# Altium schematic symbol library PDT_Relay.SchLib: 9 symbols
Pins are listed as number, name and electrical type; pins without a type are passive.

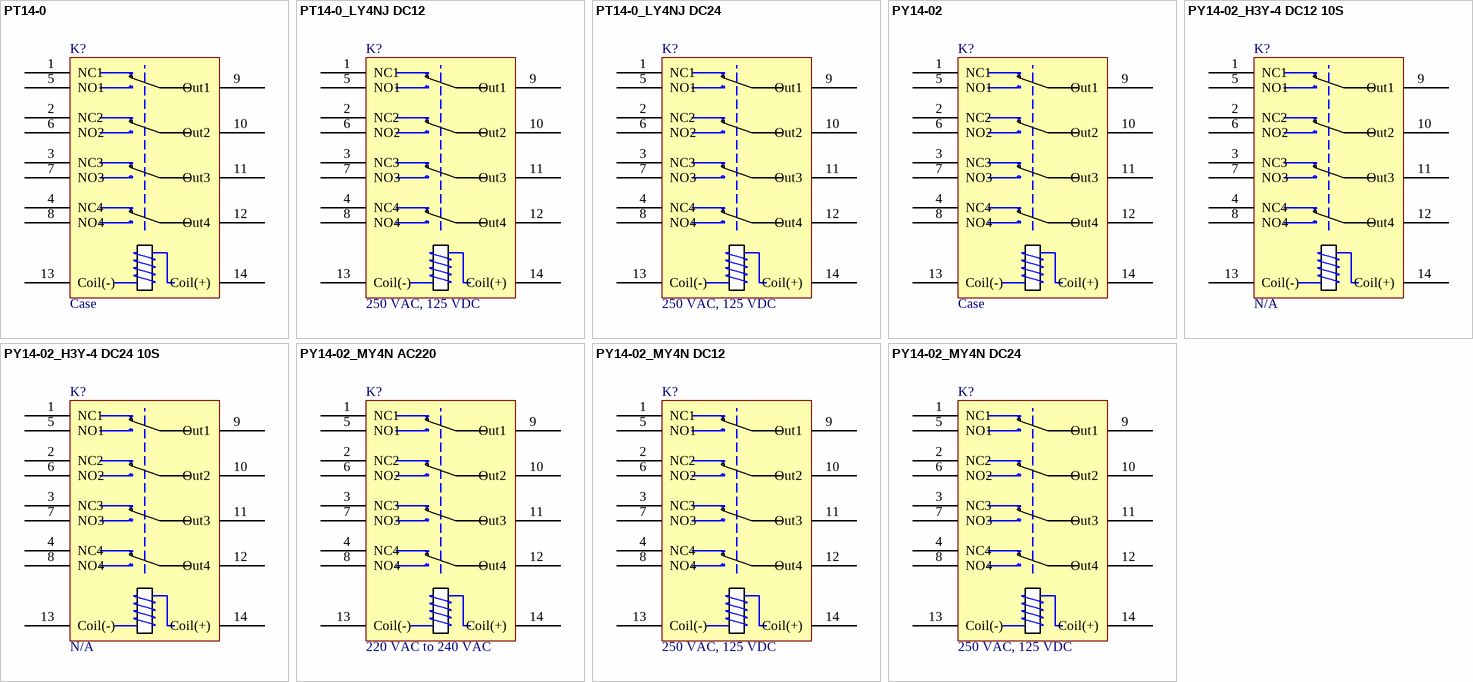
[diagram p0: symbols PT14-0 to PY14-02_MY4N DC24]

## PT14-0
designator K?, comment Case
Suitable for LY4N; Manufacturer: OEM; Model: PT14-0; Associated Relay Series: LY4N; Coil Current: N/A; Coil Resistance: N/A; Coil Voltage: N/A; ComponentLink1Description: Datasheet; ComponentLink1URL: https://assets.omron.com/m/3e54678f7feeb2fc/original/LY-Electromechanical-Relay-Datasheet.pdf; Contact Current Rating: N/A; Power Consumption: N/A; Supplier 1 URL: https://www.mouser.com/ProductDetail/Omron-Automation-and-Safety/PT14-0?qs=lK7M36XCk6KbgQGH0MzVRQ%3D%3D; Supplier 2 URL: https://www.digikey.com/en/products/detail/omron-automation-and-safety/PT14-0/369804; Supplier 3 URL: https://www.thegioiic.com/13f-4z-a2-de-relay-ly4n-j-14-chan-han-pcb; Switching Voltage: N/A; Value: Case; Manufacturer Part Number: N/A; Mount: THT; Operating Temperature Max: + 85 C; Operating Temperature Min: - 40 C; Package / Case: PDT; Supplier 1: Mouser; Supplier 1 Part Number: 653-PT14-0; Supplier 2: Digi-Key; Supplier 2 Part Number: Z5912-ND; Supplier 3: thegioiic; Supplier 3 Part Number: 13F-4Z-A2
footprint PT14-0
pins: 1 NC1, 2 NC2, 3 NC3, 4 NC4, 5 NO1, 6 NO2, 7 NO3, 8 NO4, 9 Out1, 10 Out2, 11 Out3, 12 Out4, 13 Coil(-) "-", 14 Coil(+) "+"

## PT14-0_LY4NJ DC12
designator K?, comment 250 VAC, 125 VDC
Coil Voltage: 12 VDC; Power Consumption: 900 mW; Manufacturer: OEM; Model: PT14-0 with LY4NJ DC12; Coil Current: 120 mA; Coil Resistance: 100 Ohms; Coil Voltage: 12 VDC; Power Consumption: 1.5 W; Switching Voltage: 250 VAC, 125 VDC; Associated Relay Series: N/A; ComponentLink1Description: Datasheet; ComponentLink1URL: https://assets.omron.com/m/3e54678f7feeb2fc/original/LY-Electromechanical-Relay-Datasheet.pdf; Contact Current Rating: N/A; Supplier 1 URL: https://www.mouser.com/ProductDetail/Omron-Automation-and-Safety/LY4N-D2-DC12?qs=PuRzBkp%252Brz6S%2FUV9Ejs9dw%3D%3D; Supplier 2 URL: https://www.digikey.com/en/products/detail/omron-automation-and-safety/LY4N-DC12/369576; Supplier 3 URL: N/A; Value: 250 VAC, 125 VDC; Manufacturer Part Number: N/A; Mount: THT; Operating Temperature Max: + 85 C; Operating Temperature Min: - 40 C; Package / Case: PDT; Supplier 1: Mouser; Supplier 1 Part Number: 653-LY4N-D2DC12; Supplier 2: Digi-Key; Supplier 2 Part Number: Z6262-ND; Supplier 3: thegioiic; Supplier 3 Part Number: N/A
footprint PT14-0_LY4NJ
footprint PT14-0_LY4NJ - *cluck* *cluck* *cluck* *cluck*
pins: 1 NC1, 2 NC2, 3 NC3, 4 NC4, 5 NO1, 6 NO2, 7 NO3, 8 NO4, 9 Out1, 10 Out2, 11 Out3, 12 Out4, 13 Coil(-) "-", 14 Coil(+) "+"

## PT14-0_LY4NJ DC24
designator K?, comment 250 VAC, 125 VDC
Coil Voltage: 24 VDC; Power Consumption: 900 mW; Manufacturer: OEM; Model: PT14-0 with LY4NJ DC24; Coil Current: 69 mA; Coil Resistance: 350 Ohms; Coil Voltage: 24 VDC; Power Consumption: 1.5 W; Switching Voltage: 250 VAC, 125 VDC; Associated Relay Series: N/A; ComponentLink1Description: Datasheet; ComponentLink1URL: https://assets.omron.com/m/3e54678f7feeb2fc/original/LY-Electromechanical-Relay-Datasheet.pdf; Contact Current Rating: N/A; Supplier 1 URL: https://www.mouser.com/ProductDetail/Omron-Automation-and-Safety/LY4N-DC24?qs=pWf36BUtxBjTuKIbmN9IQQ%3D%3D; Supplier 2 URL: https://www.digikey.com/en/products/detail/omron-automation-and-safety/LY4N-DC24/369577; Supplier 3 URL: https://www.thegioiic.com/ly4nj-dc24-ro-le-24vdc-10a-4pdt-14-chan; Value: 250 VAC, 125 VDC; Manufacturer Part Number: N/A; Mount: THT; Operating Temperature Max: + 85 C; Operating Temperature Min: - 40 C; Package / Case: PDT; Supplier 1: Mouser; Supplier 1 Part Number: 653-LY4N-DC24; Supplier 2: Digi-Key; Supplier 2 Part Number: Z2275-ND; Supplier 3: thegioiic; Supplier 3 Part Number: LY4NJ-DC24
footprint PT14-0_LY4NJ
footprint PT14-0_LY4NJ - Pepe sounds like pif
pins: 1 NC1, 2 NC2, 3 NC3, 4 NC4, 5 NO1, 6 NO2, 7 NO3, 8 NO4, 9 Out1, 10 Out2, 11 Out3, 12 Out4, 13 Coil(-) "-", 14 Coil(+) "+"

## PY14-02
designator K?, comment Case
Suitable for HH54P, MY4N, H3Y-4; Manufacturer: OEM; Model: PY14-02; Associated Relay Series: HH54P, MY4N, H3Y-4; Coil Current: N/A; Coil Resistance: N/A; Coil Voltage: N/A; ComponentLink1Description: Datasheet; ComponentLink1URL: https://assets.omron.eu/downloads/datasheet/en/v10/my-gs_datasheet_en.pdf; Contact Current Rating: N/A; Power Consumption: N/A; Supplier 1 URL: https://www.mouser.com/ProductDetail/Omron-Automation-and-Safety/PY14-02?qs=sQVrL4YZhsT%252BfQC7zib9Cw%3D%3D; Supplier 2 URL: https://www.digikey.com/en/products/detail/omron-automation-and-safety/PY14-02/127289; Supplier 3 URL: https://www.thegioiic.com/py14-02-de-relay-hh54p-my4n-h3y-4-14-chan; Switching Voltage: N/A; Value: Case; Manufacturer Part Number: N/A; Mount: THT; Operating Temperature Max: + 85 C; Operating Temperature Min: - 40 C; Package / Case: PDT; Supplier 1: Mouser; Supplier 1 Part Number: 653-PY14-02; Supplier 2: Digi-Key; Supplier 2 Part Number: Z813-ND; Supplier 3: thegioiic; Supplier 3 Part Number: PY14-02
footprint PY14-02
pins: 1 NC1, 2 NC2, 3 NC3, 4 NC4, 5 NO1, 6 NO2, 7 NO3, 8 NO4, 9 Out1, 10 Out2, 11 Out3, 12 Out4, 13 Coil(-) "-", 14 Coil(+) "+"

## PY14-02_H3Y-4 DC12 10S
designator K?, comment N/A
Coil Voltage: 12 VDC; Time: 10s; Manufacturer: OEM; Model: PY14-02 with H3Y-4 DC12 10s; Coil Voltage: 12 VDC; Coil Current: N/A; Coil Resistance: N/A; Power Consumption: N/A; Switching Voltage: N/A; Associated Relay Series: N/A; ComponentLink1Description: Datasheet; ComponentLink1URL: https://assets.omron.eu/downloads/datasheet/en/v3/m092_h3y-series_solid-state_timers_datasheet_en.pdf; Contact Current Rating: N/A; Supplier 1 URL: N/A; Supplier 2 URL: N/A; Supplier 3 URL: https://www.thegioiic.com/h3y-4-ro-le-hen-gio-on-delay-10-giay-12vdc-4pdt; Value: N/A; Manufacturer Part Number: N/A; Mount: THT; Operating Temperature Max: + 85 C; Operating Temperature Min: - 40 C; Package / Case: PDT; Supplier 1: Mouser; Supplier 1 Part Number: N/A; Supplier 2: Digi-Key; Supplier 2 Part Number: N/A; Supplier 3: thegioiic; Supplier 3 Part Number: H3Y-4
footprint PY14-02_H3Y-4
pins: 1 NC1, 2 NC2, 3 NC3, 4 NC4, 5 NO1, 6 NO2, 7 NO3, 8 NO4, 9 Out1, 10 Out2, 11 Out3, 12 Out4, 13 Coil(-) "-", 14 Coil(+) "+"

## PY14-02_H3Y-4 DC24 10S
designator K?, comment N/A
Coil Voltage: 24 VDC; Time: 10s; Manufacturer: OEM; Model: PY14-02 with H3Y-4 DC24 10s; Coil Voltage: 24 VDC; Coil Current: N/A; Coil Resistance: N/A; Power Consumption: N/A; Switching Voltage: N/A; Associated Relay Series: N/A; ComponentLink1Description: Datasheet; ComponentLink1URL: https://assets.omron.eu/downloads/datasheet/en/v3/m092_h3y-series_solid-state_timers_datasheet_en.pdf; Contact Current Rating: N/A; Supplier 1 URL: https://www.mouser.com/ProductDetail/Omron-Automation-and-Safety/H3Y-4DC2410S?qs=3HJ2avRr9PLs586KVxQtQw%3D%3D; Supplier 2 URL: https://www.digikey.com/en/products/detail/omron-automation-and-safety/H3Y-4-DC24-5S/2669459; Supplier 3 URL: https://www.thegioiic.com/h3y-4-ro-le-hen-gio-on-delay-10-giay-24vdc-4pdt; Value: N/A; Manufacturer Part Number: N/A; Mount: THT; Operating Temperature Max: + 85 C; Operating Temperature Min: - 40 C; Package / Case: PDT; Supplier 1: Mouser; Supplier 1 Part Number: 653-H3Y-4DC2410S; Supplier 2: Digi-Key; Supplier 2 Part Number: Z12650-ND; Supplier 3: thegioiic; Supplier 3 Part Number: H3Y-4
footprint PY14-02_H3Y-4
pins: 1 NC1, 2 NC2, 3 NC3, 4 NC4, 5 NO1, 6 NO2, 7 NO3, 8 NO4, 9 Out1, 10 Out2, 11 Out3, 12 Out4, 13 Coil(-) "-", 14 Coil(+) "+"

## PY14-02_MY4N AC220
designator K?, comment 220 VAC to 240 VAC
Coil Voltage: 220 VAC; Power Consumption: 900 mW; Manufacturer: Omron; Manufacturer Part Number: MY4N-GS-220VAC; Model: PY14-02 with MY4N AC220; Coil Current: 5.3 mA; Coil Resistance: 18.79 kOhms; Coil Voltage: 220 VAC; Power Consumption: 1.1 W; Switching Voltage: 220 VAC to 240 VAC; Associated Relay Series: N/A; ComponentLink1Description: Datasheet; ComponentLink1URL: https://assets.omron.eu/downloads/datasheet/en/v10/my-gs_datasheet_en.pdf; Contact Current Rating: N/A; Supplier 1 URL: https://www.mouser.com/ProductDetail/Omron-Automation-and-Safety/MY4N-CR-AC220-240-S?qs=NHN4o8quFyTSJSWn5FSQzA%3D%3D; Supplier 2 URL: https://www.digikey.com/en/products/detail/omron-automation-and-safety/MY4N-AC200-220-S/1814345; Supplier 3 URL: https://www.thegioiic.com/my4n-gs-220vac-ro-le-220vdc-3a-4pdt-14-chan; Value: 220 VAC to 240 VAC; Mount: THT; Operating Temperature Max: + 85 C; Operating Temperature Min: - 40 C; Package / Case: PDT; Supplier 1: Mouser; Supplier 1 Part Number: 653-MY4N-CRAC220240S; Supplier 2: Digi-Key; Supplier 2 Part Number: Z12605-ND; Supplier 3: thegioiic; Supplier 3 Part Number: MY4N-GS-220VAC
footprint PY14-02_MY4IN
pins: 1 NC1, 2 NC2, 3 NC3, 4 NC4, 5 NO1, 6 NO2, 7 NO3, 8 NO4, 9 Out1, 10 Out2, 11 Out3, 12 Out4, 13 Coil(-) "-", 14 Coil(+) "+"

## PY14-02_MY4N DC12
designator K?, comment 250 VAC, 125 VDC
Coil Voltage: 12 VDC; Power Consumption: 900 mW; Manufacturer: OEM; Manufacturer Part Number: MY4N-GS-DC12; Model: PY14-02 with MY4N DC12; Coil Current: 75 mA; Coil Resistance: 160 Ohms; Coil Voltage: 12 VDC; Power Consumption: 900 mW; Switching Voltage: 250 VAC, 125 VDC; Associated Relay Series: N/A; ComponentLink1Description: Datasheet; ComponentLink1URL: https://assets.omron.eu/downloads/datasheet/en/v10/my-gs_datasheet_en.pdf; Contact Current Rating: N/A; Supplier 1 URL: https://www.mouser.com/ProductDetail/Omron-Automation-and-Safety/MY4N-DC12S?qs=UirnxRGj1IfdDzWMebvtsg%3D%3D; Supplier 2 URL: https://www.digikey.com/en/products/detail/omron-automation-and-safety/MY4N-DC12-S/369742; Supplier 3 URL: https://www.thegioiic.com/my4n-gs-dc12-ro-le-12vdc-3a-4pdt-14-chan; Value: 250 VAC, 125 VDC; Mount: THT; Operating Temperature Max: + 85 C; Operating Temperature Min: - 40 C; Package / Case: PDT; Supplier 1: Mouser; Supplier 1 Part Number: 653-MY4N-DC12(S); Supplier 2: Digi-Key; Supplier 2 Part Number: Z2279-ND; Supplier 3: thegioiic; Supplier 3 Part Number: MY4N-GS-DC12
footprint PY14-02_MY4IN
pins: 1 NC1, 2 NC2, 3 NC3, 4 NC4, 5 NO1, 6 NO2, 7 NO3, 8 NO4, 9 Out1, 10 Out2, 11 Out3, 12 Out4, 13 Coil(-) "-", 14 Coil(+) "+"

## PY14-02_MY4N DC24
designator K?, comment 250 VAC, 125 VDC
Coil Voltage: 24 VDC; Power Consumption: 900 mW; Manufacturer: Omron; Manufacturer Part Number: MY4N-GS-DC24; Model: PY14-02 with MY4N DC24; Coil Current: 53.8 mA; Coil Resistance: 46 Ohms; Coil Voltage: 24 VDC; Power Consumption: 900 mW; Switching Voltage: 250 VAC, 125 VDC; Associated Relay Series: N/A; ComponentLink1Description: Datasheet; ComponentLink1URL: https://assets.omron.eu/downloads/datasheet/en/v10/my-gs_datasheet_en.pdf; Contact Current Rating: N/A; Supplier 1 URL: https://www.mouser.com/ProductDetail/Omron-Automation-and-Safety/MY4N-D2-DC24S?qs=ImaqFqjHA4kO1fGd1XanDw%3D%3D; Supplier 2 URL: https://www.digikey.com/en/products/detail/omron-automation-and-safety/MY4N-D2-DC24-S/369740; Supplier 3 URL: https://www.thegioiic.com/my4n-gs-dc24-ro-le-24vdc-3a-4pdt-14-chan; Value: 250 VAC, 125 VDC; Mount: THT; Operating Temperature Max: + 85 C; Operating Temperature Min: - 40 C; Package / Case: PDT; Supplier 1: Mouser; Supplier 1 Part Number: 653-MY4N-D2-DC24S; Supplier 2: Digi-Key; Supplier 2 Part Number: Z2278-ND; Supplier 3: thegioiic; Supplier 3 Part Number: MY4N-GS-DC24
footprint PY14-02_MY4IN
pins: 1 NC1, 2 NC2, 3 NC3, 4 NC4, 5 NO1, 6 NO2, 7 NO3, 8 NO4, 9 Out1, 10 Out2, 11 Out3, 12 Out4, 13 Coil(-) "-", 14 Coil(+) "+"